# Altium footprint library MPXV7002_pitot_tube.PcbLib: 1 footprints
Each footprint in its own frame and in the unit in brackets; x right, y up, seen from the top. Pads: shape width x height; smd on the part's side, far side on the other; paste and mask are expansions set on the pad; w line width, h text height; cw(c..) or ccw(c..) is an arc to the next point about the centre after c.
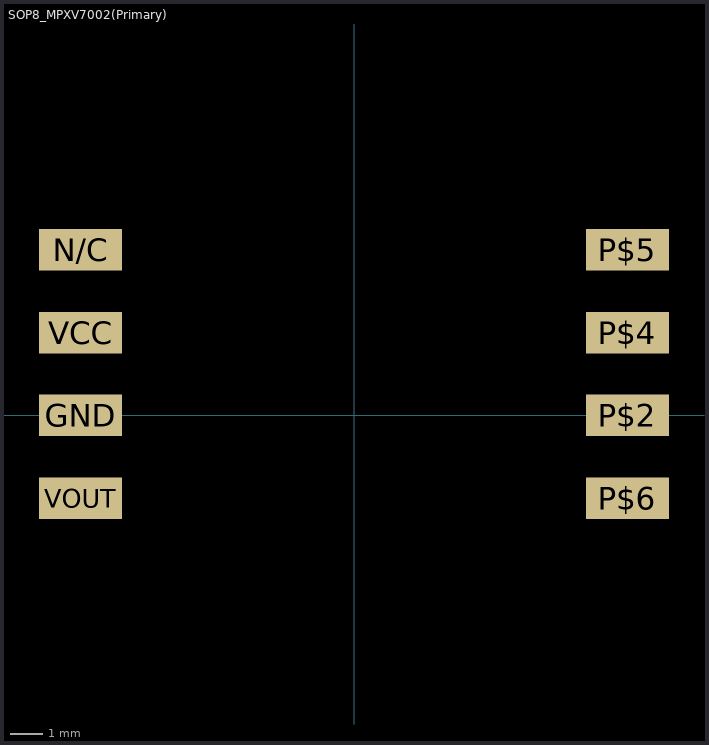
[diagram p0: the footprint, top view; thin cyan lines are the x and y axes]

## SOP8_MPXV7002(Primary) [mil]
pads (8):
  rect 100x50 smd paste-1000 mask-1000: GND(-330,0) N/C(-330,200) P$2(330,0) P$4(330,100) P$5(330,200) P$6(330,-100) VCC(-330,100) VOUT(-330,-100)
Top Paste:
  region: 280,175 380,175 380,225 280,225
  region: 280,75 380,75 380,125 280,125
  region: -380,175 -280,175 -280,225 -380,225
  region: -380,75 -280,75 -280,125 -380,125
  region: 280,-125 380,-125 380,-75 280,-75
  region: -380,-125 -280,-125 -280,-75 -380,-75
  region: 280,-25 380,-25 380,25 280,25
  region: -380,-25 -280,-25 -280,25 -380,25
Top Solder:
  region: 276.06,171.06 383.94,171.06 383.94,228.94 276.06,228.94
  region: 276.06,71.06 383.94,71.06 383.94,128.94 276.06,128.94
  region: -383.94,171.06 -276.06,171.06 -276.06,228.94 -383.94,228.94
  region: -383.94,71.06 -276.06,71.06 -276.06,128.94 -383.94,128.94
  region: 276.06,-128.94 383.94,-128.94 383.94,-71.06 276.06,-71.06
  region: -383.94,-128.94 -276.06,-128.94 -276.06,-71.06 -383.94,-71.06
  region: 276.06,-28.94 383.94,-28.94 383.94,28.94 276.06,28.94
  region: -383.94,-28.94 -276.06,-28.94 -276.06,28.94 -383.94,28.94